# EAGLE library part LM2700 (library lm2700)
LM2700 600kHz/1.25MHz, 2.5A, Step-up PWM DC/DC Converter The LM2700 is a step-up DC/DC converter with a 3.6A, 80m? internal switch and pin selectable operating frequency.
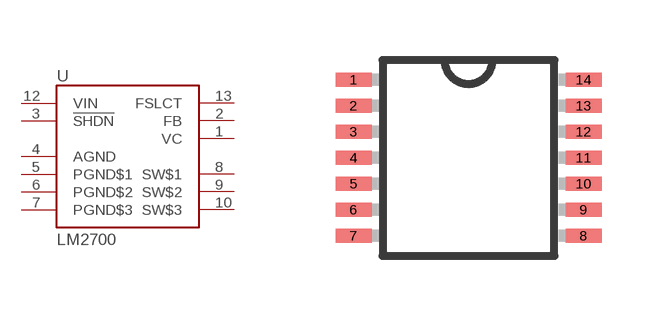
[diagram p0: symbol with the pads of TSSOP14; footprint TSSOP14]

Designator prefix -

## LM2700MT  [TSSOP14]
1  VC  pas
2  FB  in
3  !SHDN  in
4  AGND  pwr
5  PGND$1  pwr
6  PGND$2
7  PGND$3
8  SW$1  pwr
9  SW$2  pwr
10  SW$3  pwr
12  VIN  pwr
13  FSLCT  in

## Footprint TSSOP14 (pad centres in mm)
14-Lead Thin Shrink Small Outline Package [TSSOP] Source: Analog Devices .. 780914713ADD8704_0.pdf
smd 0.9 x 0.35: 1 -2.875,1.95; 2 -2.875,1.3; 3 -2.875,0.65; 4 -2.875,0; 5 -2.875,-0.65; 6 -2.875,-1.3; 7 -2.875,-1.95; 8 2.875,-1.95; 9 2.875,-1.3; 10 2.875,-0.65; 11 2.875,0; 12 2.875,0.65; 13 2.875,1.3; 14 2.875,1.95